# Altium schematic symbol library Schlib11.SchLib: 10 symbols
Pins are listed as number, name and electrical type; pins without a type are passive.

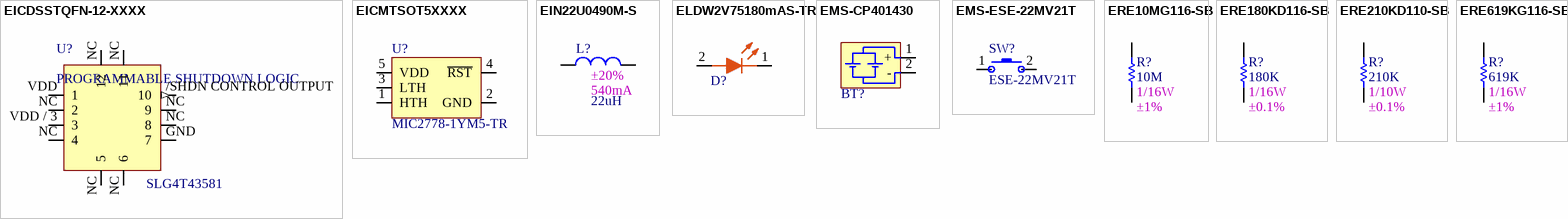
[diagram p0: symbols EICDSSTQFN-12-XXXX to ERE619KG116-SB]

## EICDSSTQFN-12-XXXX
designator U?, comment PROGRAMMABLE SHUTDOWN LOGIC  value SLG4T43581
INTERNAL PART NUMBER: EICDSSTQFN-12-XXXX; MANUFACTURER: DIALOG SEMICONDUCTOR; 1st AUXILIARY FIELD: 3.6V; 2NDAUXILIARY FIELD: 146mA; 3RD AUXILIARY FIELD: RoHS COMPLAINT; COMPONENT HEIGHT (mm): 0.6; TEMP CO: -40°C - 85°C; VENDOR NAME: CUSTOM; 4TH AUXILIARY FIELD: *; MANUFACTURER PART NUMBER: SLG4T43581; PART TYPE: PROGRAMMABLE SHUTDOWN LOGIC; VENDOR PART NUMBER: CUSTOM
footprint DS_SLG4T43581
pins: /SHDN CONTROL OUTPUT 10 (out), GND 7 (power), NC 2, NC 4, NC 9, NC 8, NC 12, NC 11, NC 5, NC 6, VDD 1 (power), VDD / 3 3 (power)

## EICMTSOT5XXXX
designator U?, comment value MIC2778-1YM5-TR  (hidden comment: IC SUPERVISOR ADJ HYSTER SOT23-5)
Manufacturer: Microchip Technology; Internal Part Number: EICMTSOT5XXXX; Vendor Part Number: 576-2690-1-ND; Component Height (mm): 1.45mm; 3rd Auxiliary Field: ROHS Compliant; Vendor Name: Digi-Key; Temp Co: -40°C ~ 85°C; 2nd Auxiliary Field: Adjustable/Selectable; Manufacturer Part Number: MIC2778-1YM5-TR; Part Type: IC SUPERVISOR ADJ HYSTER SOT23-5; 4th Auxiliary Field: *; 1st Auxiliary Field: *
footprint SOT95P280X100-5N (Footprint not found)
pins: 1 HTH, 2 GND, 3 LTH, 4 ~{RST}, 5 VDD

## EIN22U0490M-S
designator L?, comment value 22uH  2nd Auxiliary Field: ±20%  1st Auxiliary Field: 540mA  (hidden comment: FIXED IND 22UH 540MA 1.008 OHM)
Manufacturer: Murata Electronics North America; Vendor Part Number: 587-2439-1-ND; Manufacturer Part Number: LQH2HPZ220MJRL; Internal Part Number: EIN22U0490M-S; Vendor Name: Digi-Key; 3rd Auxiliary Field: RoHS Compliant; Component Height (mm): 1.00mm; Temp Co: -40°C ~ 105°C; Part Type: FIXED IND 22UH 540MA 1.008 OHM
footprint INDC2520X12N (Chip Inductor, 2-Leads, Body 2.50x2.00mm, IPC Medium Density)
footprint INDC2520X12N - 1 (Chip Inductor, 2-Leads, Body 2.50x2.00mm, IPC Medium Density)
pins: 1, 2

## ELDW2V75180mAS-TR
designator D?, comment LED MID PWR LM301B 3MMX3MM  (value not drawn)
Manufacturer: Samsung Semiconductor, Inc.; Internal Part Number: ELDW2V75180mAS-TR; Manufacturer Part Number: SPMWHD32AMD5XAT0S0; Vendor Part Number: 1510-2380-2-ND; Component Height (mm): 0.75MM; 1st Auxiliary Field: 2V75; 2nd Auxiliary Field: 182mA; Vendor Name: Digi-Key; Value: SPMWHD32AMD5XAT0S0; Part Type: LED MID PWR LM301B 3MMX3MM; 3rd Auxiliary Field: *; 4th Auxiliary Field: *; Temp Co: *
footprint Samsung_LM301B
pins: 1 K, 2 A

## EMS-CP401430
designator BT?, comment Custom solder pad for Battery  (value not drawn)
Internal Part Number: EMS-CP401430; Manufacturer Part Number: CP401430; Vendor Part Number: cusstom; Manufacturer: ABLE NEW ENERGY CO LTD; 1st Auxiliary Field: 3.0 V; 2nd Auxiliary Field: 50 mA continuous; 3rd Auxiliary Field: 290mAh @2mA to 1.5 V @ 23° C; Value: CP401430; Temp Co: -20° C to 60° C; Vendor Name: Custom; Part Type: Custom solder pad for Battery
footprint Bat_CP401430
pins: 1 +, 2 -

## EMS-ESE-22MV21T
designator SW?, comment value ESE-22MV21T  (hidden comment: SWITCH TACTILE SPST-NO 0.02A 15V)
SWITCH DETECTOR SPST-NO 10MA 5V; Manufacturer: Panasonic Electronic Components; Internal Part Number: EMS-ESE-22MV21T; Vendor Part Number: P13585SCT-ND; 1st Auxiliary Field: 0.01A @ 5VDC; 3rd Auxiliary Field: RoHS Compliant; Component Height (mm): 8.65mm; Temp Co: -10°C ~ 70°C; Vendor Name: Digi-Key; 2nd Auxiliary Field: SPST-NO; Part Type: SWITCH DETECTOR SPST-NO 10MA 5V; 4th Auxiliary Field: *; Manufacturer Part Number: ESE-22MV21T
footprint SW_ESE-22MV21T
pins: 1, 2

## ERE10MG116-SB
designator R?, comment value 10M  1st Auxiliary Field: 1/16W  2nd Auxiliary Field: ±1%  (hidden comment: RES SMD 10M OHM 1% 1/16W 0402)
Manufacturer Part Number: RC0402FR-0710ML; Manufacturer: Yageo; Internal Part Number: ERE10MG116-SB; Vendor Part Number: 311-10.0MLRCT-ND; Component Height (mm): 0.40mm; 3rd Auxiliary Field: RoHS Compliant; Vendor Name: Digi-Key; Temp Co: ±100ppm/°C; Part Type: RES SMD 10M OHM 1% 1/16W 0402; 4th Auxiliary Field: *
footprint SMDR0402
pins: 1, 2

## ERE180KD116-SB
designator R?, comment value 180K  1st Auxiliary Field: 1/16W  2nd Auxiliary Field: ±0.1%  (hidden comment: RES SMD 180K OHM 0.1% 1/16W 0402)
Manufacturer Part Number: CPF0402B180KE1; Manufacturer: TE Connectivity Passive Product; Internal Part Number: ERE180KD116-SB; Vendor Part Number: A103794CT-ND; Component Height (mm): 0.35mm; 3rd Auxiliary Field: RoHS Compliant; Vendor Name: Digi-Key; Temp Co: ±25ppm/°C; Part Type: RES SMD 180K OHM 0.1% 1/16W 0402; 4th Auxiliary Field: *
footprint SMDR0402
pins: 1, 2

## ERE210KD110-SB
designator R?, comment value 210K  1st Auxiliary Field: 1/10W  2nd Auxiliary Field: ±0.1%  (hidden comment: RES 210K OHM 0.1% 1/10W 0402)
Manufacturer Part Number: RP73PF1E210KBTD; Manufacturer: TE Connectivity Passive Product; Internal Part Number: ERE210KD110-SB; Vendor Part Number: A127542CT-ND; Component Height (mm): 0.35mm; 3rd Auxiliary Field: RoHS Compliant; Vendor Name: Digi-Key; Temp Co: ±25ppm/°C; Part Type: RES 210K OHM 0.1% 1/10W 0402; 4th Auxiliary Field: *
footprint SMDR0402
pins: 1, 2

## ERE619KG116-SB
designator R?, comment value 619K  1st Auxiliary Field: 1/16W  2nd Auxiliary Field: ±1%  (hidden comment: RES SMD 10M OHM 1% 1/16W 0402RES SMD 619K OHM 1% 1/16W 0402)
RES SMD 619K OHM 1% 1/16W 0402; Manufacturer Part Number: RC0402FR-07619KL; Manufacturer: Yageo; Internal Part Number: ERE619KG116-SB; Vendor Part Number: YAG3200CT-ND; Component Height (mm): 0.40mm; 3rd Auxiliary Field: ROHS Compliant; Vendor Name: Digi-Key; Temp Co: ±100ppm/°C; Part Type: RES SMD 619K OHM 1% 1/16W 0402; 4th Auxiliary Field: *
footprint SMDR0402
pins: 1, 2